# Altium integrated library TI_Logic_Flip-Flop,Latch,Register.IntLib: 2598 symbols (part 1 of 122)
Pins are listed as number, name and electrical type; pins without a type are passive.

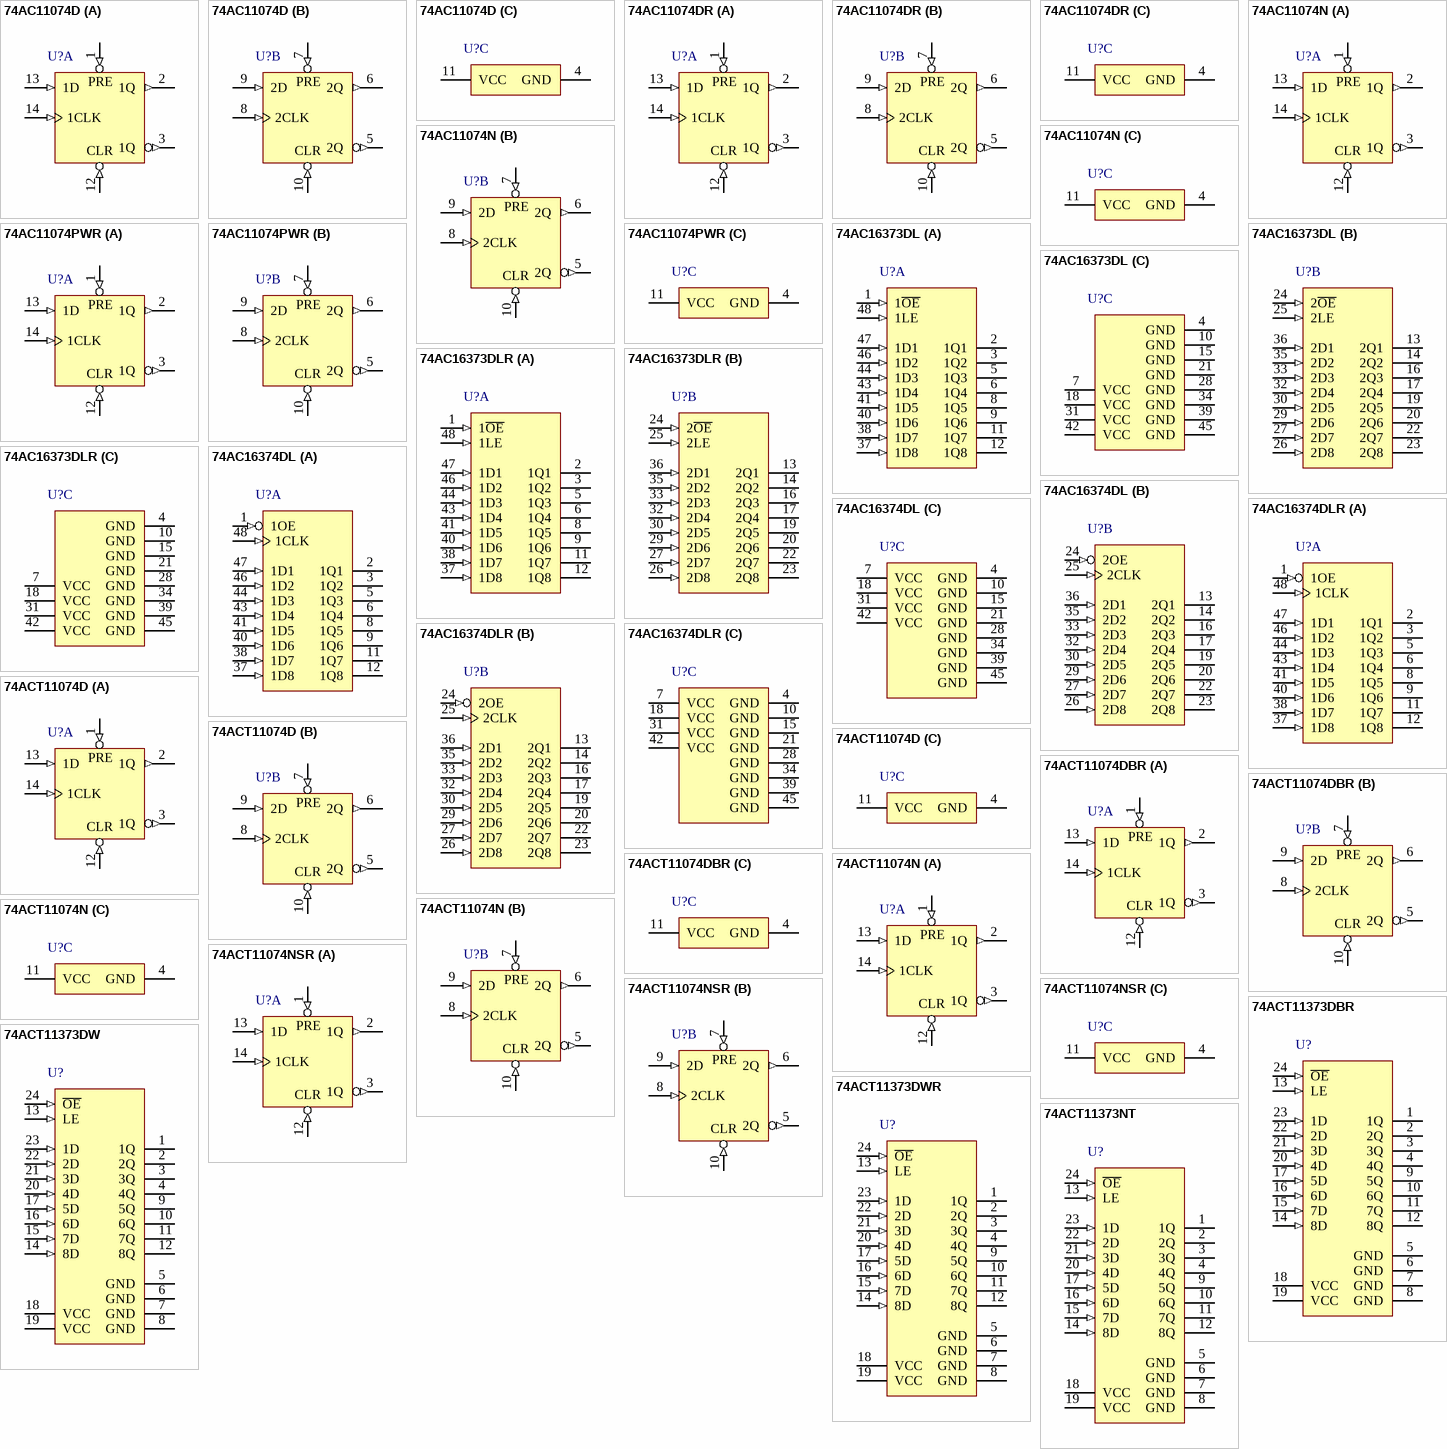
[diagram p0: symbols 74AC11074D to 74ACT11373NT]

## 74AC11074D
designator U?
Dual Positive-Edge-Triggered D-Type Flip-Flops With Clear and Preset, D0014A, TUBE; Generic Part Number: 74AC11074; Manufacturer: Texas Instruments; PartNumber: 74AC11074D; VCC(Min)(V): 3; VCC(Max)(V): 5.5; Output Type: CMOS; Output: 3S; ICC @ Nom Voltage(Max)(mA): 0.04; Bits(#): 2; F @ Nom Voltage(Max)(Mhz): 100; Rating: Catalog; Technology Family: AC; Voltage(Nom)(V): 3.3,5; Schmitt Trigger: No; Output Drive (IOL/IOH)(Max)(mA): 24/-24; Output Logic: Inverted,Non-inverted; tpd @ Nom Voltage(Max)(ns): 11.4,8.2; DatasheetVersion: SCAS499A; PackageReference: D0014A; Supplier 1: Digi-Key; Supplier Part Number 1: 296-4159-5-ND; Supplier 2: Farnell; Supplier Part Number 2: 1752782; Supplier 3: Newark; Supplier Part Number 3: 50R7019; Supplier 4: Mouser; Supplier Part Number 4: 595-74AC11074D; Input Type: CMOS; Operating Temperature Range(C): -40 to 85; 3-State Output: No; Code_JEDEC: MS-012; ComponentLink1Description: Manufacturer URL; ComponentLink1URL: http://www.ti.com/; ComponentLink2Description: Datasheet; ComponentLink2URL: http://www.ti.com/lit/ds/symlink/74ac11074.pdf; ComponentLink3Description: Package Specification; ComponentLink3URL: http://www.ti.com/lit/ml/mpds177g/mpds177g.pdf
footprint D0014A_N (SOIC, 14-Leads, Body 8.75x4mm, Pitch 1.27mm, IPC Medium Density)
footprint D0014A_M (SOIC, 14-Leads, Body 8.75x4mm, Pitch 1.27mm, IPC Low Density)
footprint D0014A_L (SOIC, 14-Leads, Body 8.75x4mm, Pitch 1.27mm, IPC High Density)
part A pins: 1 1~{PRE} (in), 2 1Q (out), 3 1Q (out), 12 1~{CLR} (in), 13 1D (in), 14 1CLK (in)
part B pins: 5 2Q (out), 6 2Q (out), 7 2~{PRE} (in), 8 2CLK (in), 9 2D (in), 10 2~{CLR} (in)
part C pins: 4 GND (power), 11 VCC (power)
part A text: PRE; CLR
part B text: PRE; CLR

## 74AC11074DR
designator U?
Dual Positive-Edge-Triggered D-Type Flip-Flops With Clear and Preset, D0014A, LARGE T&R; Generic Part Number: 74AC11074; Manufacturer: Texas Instruments; PartNumber: 74AC11074DR; VCC(Min)(V): 3; VCC(Max)(V): 5.5; Output Type: CMOS; Output: 3S; ICC @ Nom Voltage(Max)(mA): 0.04; Bits(#): 2; F @ Nom Voltage(Max)(Mhz): 100; Rating: Catalog; Technology Family: AC; Voltage(Nom)(V): 3.3,5; Schmitt Trigger: No; Output Drive (IOL/IOH)(Max)(mA): 24/-24; Output Logic: Inverted,Non-inverted; tpd @ Nom Voltage(Max)(ns): 11.4,8.2; DatasheetVersion: SCAS499A; PackageReference: D0014A; Supplier 1: Digi-Key; Supplier Part Number 1: 74AC11074DRTR-ND; Supplier 2: Digi-Key; Supplier Part Number 2: 74AC11074DRCT-ND; Supplier 3: Mouser; Supplier Part Number 3: 595-74AC11074DR; Input Type: CMOS; Operating Temperature Range(C): -40 to 85; 3-State Output: No; Code_JEDEC: MS-012; ComponentLink1Description: Manufacturer URL; ComponentLink1URL: http://www.ti.com/; ComponentLink2Description: Datasheet; ComponentLink2URL: http://www.ti.com/lit/ds/symlink/74ac11074.pdf; ComponentLink3Description: Package Specification; ComponentLink3URL: http://www.ti.com/lit/ml/mpds177g/mpds177g.pdf
footprint D0014A_N (SOIC, 14-Leads, Body 8.75x4mm, Pitch 1.27mm, IPC Medium Density)
footprint D0014A_M (SOIC, 14-Leads, Body 8.75x4mm, Pitch 1.27mm, IPC Low Density)
footprint D0014A_L (SOIC, 14-Leads, Body 8.75x4mm, Pitch 1.27mm, IPC High Density)
part A pins: 1 1~{PRE} (in), 2 1Q (out), 3 1Q (out), 12 1~{CLR} (in), 13 1D (in), 14 1CLK (in)
part B pins: 5 2Q (out), 6 2Q (out), 7 2~{PRE} (in), 8 2CLK (in), 9 2D (in), 10 2~{CLR} (in)
part C pins: 4 GND (power), 11 VCC (power)
part A text: PRE; CLR
part B text: PRE; CLR

## 74AC11074N
designator U?
Dual Positive-Edge-Triggered D-Type Flip-Flops With Clear and Preset, N0014A, TUBE; Generic Part Number: 74AC11074; Manufacturer: Texas Instruments; PartNumber: 74AC11074N; VCC(Min)(V): 3; VCC(Max)(V): 5.5; Output Type: CMOS; Output: 3S; ICC @ Nom Voltage(Max)(mA): 0.04; Bits(#): 2; F @ Nom Voltage(Max)(Mhz): 100; Rating: Catalog; Technology Family: AC; Voltage(Nom)(V): 3.3,5; Schmitt Trigger: No; Output Drive (IOL/IOH)(Max)(mA): 24/-24; Output Logic: Inverted,Non-inverted; tpd @ Nom Voltage(Max)(ns): 11.4,8.2; DatasheetVersion: SCAS499A; PackageReference: N0014A; Supplier 1: Digi-Key; Supplier Part Number 1: 296-32790-5-ND; Supplier 2: Farnell; Supplier Part Number 2: 1749861; Supplier 3: Newark; Supplier Part Number 3: 50R7020; Supplier 4: Mouser; Supplier Part Number 4: 595-74AC11074N; Input Type: CMOS; Operating Temperature Range(C): -40 to 85; 3-State Output: No; Code_JEDEC: MS-001; ComponentLink1Description: Manufacturer URL; ComponentLink1URL: http://www.ti.com/; ComponentLink2Description: Datasheet; ComponentLink2URL: http://www.ti.com/lit/ds/symlink/74ac11074.pdf; ComponentLink3Description: Package Specification; ComponentLink3URL: http://www.ti.com/lit/ml/mpdi002c/mpdi002c.pdf
footprint N0014A (DIP, 14-Leads, Body 19.7x6.6mm, Pitch 2.54mm)
part A pins: 1 1~{PRE} (in), 2 1Q (out), 3 1Q (out), 12 1~{CLR} (in), 13 1D (in), 14 1CLK (in)
part B pins: 5 2Q (out), 6 2Q (out), 7 2~{PRE} (in), 8 2CLK (in), 9 2D (in), 10 2~{CLR} (in)
part C pins: 4 GND (power), 11 VCC (power)
part A text: PRE; CLR
part B text: PRE; CLR

## 74AC11074PWR
designator U?
Dual Positive-Edge-Triggered D-Type Flip-Flops With Clear and Preset, PW0014A, LARGE T&R; Generic Part Number: 74AC11074; Manufacturer: Texas Instruments; PartNumber: 74AC11074PWR; VCC(Min)(V): 3; VCC(Max)(V): 5.5; Output Type: CMOS; Output: 3S; ICC @ Nom Voltage(Max)(mA): 0.04; Bits(#): 2; F @ Nom Voltage(Max)(Mhz): 100; Rating: Catalog; Technology Family: AC; Voltage(Nom)(V): 3.3,5; Schmitt Trigger: No; Output Drive (IOL/IOH)(Max)(mA): 24/-24; Output Logic: Inverted,Non-inverted; tpd @ Nom Voltage(Max)(ns): 11.4,8.2; DatasheetVersion: SCAS499A; PackageReference: PW0014A; Supplier 1: Digi-Key; Supplier Part Number 1: 296-4160-2-ND; Supplier 2: Digi-Key; Supplier Part Number 2: 296-4160-1-ND; Supplier 3: Digi-Key; Supplier Part Number 3: 296-4160-6-ND; Supplier 4: Newark; Supplier Part Number 4: 75C9256; Supplier 5: Mouser; Supplier Part Number 5: 595-74AC11074PWR; Input Type: CMOS; Operating Temperature Range(C): -40 to 85; 3-State Output: No; Code_JEDEC: MO-153; ComponentLink1Description: Manufacturer URL; ComponentLink1URL: http://www.ti.com/; ComponentLink2Description: Datasheet; ComponentLink2URL: http://www.ti.com/lit/ds/symlink/74ac11074.pdf; ComponentLink3Description: Package Specification; ComponentLink3URL: http://www.ti.com/lit/ml/mpds360/mpds360.pdf
footprint PW0014A_N (SOP, 14-Leads, Body 5.1x4.5mm, Pitch 0.65mm, IPC Medium Density)
footprint PW0014A_M (SOP, 14-Leads, Body 5.1x4.5mm, Pitch 0.65mm, IPC Low Density)
footprint PW0014A_L (SOP, 14-Leads, Body 5.1x4.5mm, Pitch 0.65mm, IPC High Density)
part A pins: 1 1~{PRE} (in), 2 1Q (out), 3 1Q (out), 12 1~{CLR} (in), 13 1D (in), 14 1CLK (in)
part B pins: 5 2Q (out), 6 2Q (out), 7 2~{PRE} (in), 8 2CLK (in), 9 2D (in), 10 2~{CLR} (in)
part C pins: 4 GND (power), 11 VCC (power)
part A text: PRE; CLR
part B text: PRE; CLR

## 74AC16373DL
designator U?
16-Bit Transparent D-Type Latches With 3-State Outputs, DL0048A, TUBE; Generic Part Number: 74AC16373; Manufacturer: Texas Instruments; PartNumber: 74AC16373DL; VCC(Min)(V): 3; VCC(Max)(V): 5.5; Output Type: CMOS; Logic: True; Static Current: 0.08; Bits(#): 16; F @ Nom Voltage(Max)(Mhz): 100; Rating: Catalog; Technology Family: AC; Voltage(Nom)(V): 3.3,5; Schmitt Trigger: No; Output Drive (IOL/IOH)(Max)(mA): 24/-24; Output Logic: Non-inverted; 3-State Output: Yes; tpd @ Nom Voltage(Max)(ns): 14.8,10.1; DatasheetVersion: SCAS121B; PackageReference: DL0048A; Supplier 1: Digi-Key; Supplier Part Number 1: 296-32798-5-ND; Supplier 2: Newark; Supplier Part Number 2: 75C9286; Supplier 3: Mouser; Supplier Part Number 3: 595-74AC16373DL; ICC @ Nom Voltage(Max)(mA): 0.08; Input Type: CMOS; Operating Temperature Range(C): -40 to 85; Code_JEDEC: MO-118; ComponentLink1Description: Manufacturer URL; ComponentLink1URL: http://www.ti.com/; ComponentLink2Description: Datasheet; ComponentLink2URL: http://www.ti.com/lit/ds/symlink/74ac16373.pdf; ComponentLink3Description: Package Specification; ComponentLink3URL: http://www.ti.com/lit/ml/mpds490/mpds490.pdf
footprint DL0048A_N (SOP, 48-Leads, Body 7.6x16mm, Pitch 0.635mm, IPC Medium Density)
footprint DL0048A_M (SOP, 48-Leads, Body 7.6x16mm, Pitch 0.635mm, IPC Low Density)
footprint DL0048A_L (SOP, 48-Leads, Body 7.6x16mm, Pitch 0.635mm, IPC High Density)
part A pins: 1 1~{OE} (in) "Output Enable 1", 2 1Q1 (hiz) "1Q1 Output", 3 1Q2 (hiz) "1Q2 Output", 5 1Q3 (hiz) "1Q3 Output", 6 1Q4 (hiz) "1Q4 Output", 8 1Q5 (hiz) "1Q5 Output", 9 1Q6 (hiz) "1Q6 Output", 11 1Q7 (hiz) "1Q7 Output", 12 1Q8 (hiz) "1Q8 Output", 37 1D8 (in) "1D8 Input", 38 1D7 (in) "1D7 Input", 40 1D6 (in) "1D6 Input", 41 1D5 (in) "1D5 Input", 43 1D4 (in) "1D4 Input", 44 1D3 (in) "1D3 Input", 46 1D2 (in) "1D2 Input", 47 1D1 (in) "1D1 Input", 48 1LE (in) "Latch Enable 1"
part B pins: 13 2Q1 (hiz) "2Q1 Output", 14 2Q2 (hiz) "2Q2 Output", 16 2Q3 (hiz) "2Q3 Output", 17 2Q4 (hiz) "2Q4 Output", 19 2Q5 (hiz) "Output", 20 2Q6 (hiz) "2Q6 Output", 22 2Q7 (hiz) "2Q7 Output", 23 2Q8 (hiz) "2Q8 Output", 24 2~{OE} (in) "Output Enable 2", 25 2LE (in) "2LE Input", 26 2D8 (in) "2D8 Input", 27 2D7 (in) "2D7 Input", 29 2D6 (in) "2D6 Input", 30 2D5 (in) "2D5 Input", 32 2D4 (in) "2D4 Input", 33 2D3 (in) "2D3 Input", 35 2D2 (in) "2D2 Input", 36 2D1 (in) "2D1 Input"
part C pins: 4 GND (power) "Ground Pin", 7 VCC (power) "Power Pin", 10 GND (power) "Ground Pin", 15 GND (power) "Ground Pin", 18 VCC (power) "Power Pin", 21 GND (power) "Ground Pin", 28 GND (power) "Ground Pin", 31 VCC (power) "Power Pin", 34 GND (power) "Ground Pin", 39 GND (power) "Ground Pin", 42 VCC (power) "Power Pin", 45 GND (power) "Ground Pin"

## 74AC16373DLR
designator U?
16-Bit Transparent D-Type Latches With 3-State Outputs, DL0048A, LARGE T&R; Generic Part Number: 74AC16373; Manufacturer: Texas Instruments; PartNumber: 74AC16373DLR; VCC(Min)(V): 3; VCC(Max)(V): 5.5; Output Type: CMOS; Logic: True; Static Current: 0.08; Bits(#): 16; F @ Nom Voltage(Max)(Mhz): 100; Rating: Catalog; Technology Family: AC; Voltage(Nom)(V): 3.3,5; Schmitt Trigger: No; Output Drive (IOL/IOH)(Max)(mA): 24/-24; Output Logic: Non-inverted; 3-State Output: Yes; tpd @ Nom Voltage(Max)(ns): 14.8,10.1; DatasheetVersion: SCAS121B; PackageReference: DL0048A; Supplier 1: Digi-Key; Supplier Part Number 1: 74AC16373DLR-ND; Supplier 2: Mouser; Supplier Part Number 2: 595-74AC16373DLR; ICC @ Nom Voltage(Max)(mA): 0.08; Input Type: CMOS; Operating Temperature Range(C): -40 to 85; Code_JEDEC: MO-118; ComponentLink1Description: Manufacturer URL; ComponentLink1URL: http://www.ti.com/; ComponentLink2Description: Datasheet; ComponentLink2URL: http://www.ti.com/lit/ds/symlink/74ac16373.pdf; ComponentLink3Description: Package Specification; ComponentLink3URL: http://www.ti.com/lit/ml/mpds490/mpds490.pdf
footprint DL0048A_N (SOP, 48-Leads, Body 7.6x16mm, Pitch 0.635mm, IPC Medium Density)
footprint DL0048A_M (SOP, 48-Leads, Body 7.6x16mm, Pitch 0.635mm, IPC Low Density)
footprint DL0048A_L (SOP, 48-Leads, Body 7.6x16mm, Pitch 0.635mm, IPC High Density)
part A pins: 1 1~{OE} (in) "Output Enable 1", 2 1Q1 (hiz) "1Q1 Output", 3 1Q2 (hiz) "1Q2 Output", 5 1Q3 (hiz) "1Q3 Output", 6 1Q4 (hiz) "1Q4 Output", 8 1Q5 (hiz) "1Q5 Output", 9 1Q6 (hiz) "1Q6 Output", 11 1Q7 (hiz) "1Q7 Output", 12 1Q8 (hiz) "1Q8 Output", 37 1D8 (in) "1D8 Input", 38 1D7 (in) "1D7 Input", 40 1D6 (in) "1D6 Input", 41 1D5 (in) "1D5 Input", 43 1D4 (in) "1D4 Input", 44 1D3 (in) "1D3 Input", 46 1D2 (in) "1D2 Input", 47 1D1 (in) "1D1 Input", 48 1LE (in) "Latch Enable 1"
part B pins: 13 2Q1 (hiz) "2Q1 Output", 14 2Q2 (hiz) "2Q2 Output", 16 2Q3 (hiz) "2Q3 Output", 17 2Q4 (hiz) "2Q4 Output", 19 2Q5 (hiz) "Output", 20 2Q6 (hiz) "2Q6 Output", 22 2Q7 (hiz) "2Q7 Output", 23 2Q8 (hiz) "2Q8 Output", 24 2~{OE} (in) "Output Enable 2", 25 2LE (in) "2LE Input", 26 2D8 (in) "2D8 Input", 27 2D7 (in) "2D7 Input", 29 2D6 (in) "2D6 Input", 30 2D5 (in) "2D5 Input", 32 2D4 (in) "2D4 Input", 33 2D3 (in) "2D3 Input", 35 2D2 (in) "2D2 Input", 36 2D1 (in) "2D1 Input"
part C pins: 4 GND (power) "Ground Pin", 7 VCC (power) "Power Pin", 10 GND (power) "Ground Pin", 15 GND (power) "Ground Pin", 18 VCC (power) "Power Pin", 21 GND (power) "Ground Pin", 28 GND (power) "Ground Pin", 31 VCC (power) "Power Pin", 34 GND (power) "Ground Pin", 39 GND (power) "Ground Pin", 42 VCC (power) "Power Pin", 45 GND (power) "Ground Pin"

## 74AC16374DL
designator U?
16-Bit Edge-Triggered D-Type Flip-Flops With 3-State Outputs, DL0048A, TUBE; Generic Part Number: 74AC16374; Manufacturer: Texas Instruments; PartNumber: 74AC16374DL; VCC(Min)(V): 3; VCC(Max)(V): 5.5; Output Type: CMOS; ICC @ Nom Voltage(Max)(mA): 0.08; Bits(#): 16; F @ Nom Voltage(Max)(Mhz): 100; Rating: Catalog; Technology Family: AC; Voltage(Nom)(V): 3.3,5; Schmitt Trigger: No; Output Drive (IOL/IOH)(Max)(mA): 24/-24; Output Logic: Non-inverted; 3-State Output: Yes; tpd @ Nom Voltage(Max)(ns): 17,10.8; DatasheetVersion: SCAS123B; PackageReference: DL0048A; Supplier 1: Digi-Key; Supplier Part Number 1: 296-32799-5-ND; Supplier 2: Farnell; Supplier Part Number 2: 1752786; Supplier 3: Mouser; Supplier Part Number 3: 595-74AC16374DL; Input Type: CMOS; Operating Temperature Range(C): -40 to 85; Code_JEDEC: MO-118; ComponentLink1Description: Manufacturer URL; ComponentLink1URL: http://www.ti.com/; ComponentLink2Description: Datasheet; ComponentLink2URL: http://www.ti.com/lit/ds/symlink/74ac16374.pdf; ComponentLink3Description: Package Specification; ComponentLink3URL: http://www.ti.com/lit/ml/mpds490/mpds490.pdf
footprint DL0048A_N (SOP, 48-Leads, Body 7.6x16mm, Pitch 0.635mm, IPC Medium Density)
footprint DL0048A_M (SOP, 48-Leads, Body 7.6x16mm, Pitch 0.635mm, IPC Low Density)
footprint DL0048A_L (SOP, 48-Leads, Body 7.6x16mm, Pitch 0.635mm, IPC High Density)
part A pins: 1 1OE (in), 2 1Q1 (hiz), 3 1Q2 (hiz), 5 1Q3 (hiz), 6 1Q4 (hiz), 8 1Q5 (hiz), 9 1Q6 (hiz), 11 1Q7 (hiz), 12 1Q8 (hiz), 37 1D8 (in), 38 1D7 (in), 40 1D6 (in), 41 1D5 (in), 43 1D4 (in), 44 1D3 (in), 46 1D2 (in), 47 1D1 (in), 48 1CLK (in)
part B pins: 13 2Q1 (hiz), 14 2Q2 (hiz), 16 2Q3 (hiz), 17 2Q4 (hiz), 19 2Q5 (hiz), 20 2Q6 (hiz), 22 2Q7 (hiz), 23 2Q8 (hiz), 24 2OE (in), 25 2CLK (in), 26 2D8 (in), 27 2D7 (in), 29 2D6 (in), 30 2D5 (in), 32 2D4 (in), 33 2D3 (in), 35 2D2 (in), 36 2D1 (in)
part C pins: 4 GND (power), 7 VCC (power), 10 GND (power), 15 GND (power), 18 VCC (power), 21 GND (power), 28 GND (power), 31 VCC (power), 34 GND (power), 39 GND (power), 42 VCC (power), 45 GND (power)

## 74AC16374DLR
designator U?
16-Bit Edge-Triggered D-Type Flip-Flops With 3-State Outputs, DL0048A, LARGE T&R; Generic Part Number: 74AC16374; Manufacturer: Texas Instruments; PartNumber: 74AC16374DLR; VCC(Min)(V): 3; VCC(Max)(V): 5.5; Output Type: CMOS; ICC @ Nom Voltage(Max)(mA): 0.08; Bits(#): 16; F @ Nom Voltage(Max)(Mhz): 100; Rating: Catalog; Technology Family: AC; Voltage(Nom)(V): 3.3,5; Schmitt Trigger: No; Output Drive (IOL/IOH)(Max)(mA): 24/-24; Output Logic: Non-inverted; 3-State Output: Yes; tpd @ Nom Voltage(Max)(ns): 17,10.8; DatasheetVersion: SCAS123B; PackageReference: DL0048A; Supplier 1: Digi-Key; Supplier Part Number 1: 296-14453-2-ND; Supplier 2: Digi-Key; Supplier Part Number 2: 296-14453-1-ND; Supplier 3: Digi-Key; Supplier Part Number 3: 296-14453-6-ND; Supplier 4: Mouser; Supplier Part Number 4: 595-74AC16374DLR; Input Type: CMOS; Operating Temperature Range(C): -40 to 85; Code_JEDEC: MO-118; ComponentLink1Description: Manufacturer URL; ComponentLink1URL: http://www.ti.com/; ComponentLink2Description: Datasheet; ComponentLink2URL: http://www.ti.com/lit/ds/symlink/74ac16374.pdf; ComponentLink3Description: Package Specification; ComponentLink3URL: http://www.ti.com/lit/ml/mpds490/mpds490.pdf
footprint DL0048A_N (SOP, 48-Leads, Body 7.6x16mm, Pitch 0.635mm, IPC Medium Density)
footprint DL0048A_M (SOP, 48-Leads, Body 7.6x16mm, Pitch 0.635mm, IPC Low Density)
footprint DL0048A_L (SOP, 48-Leads, Body 7.6x16mm, Pitch 0.635mm, IPC High Density)
part A pins: 1 1OE (in), 2 1Q1 (hiz), 3 1Q2 (hiz), 5 1Q3 (hiz), 6 1Q4 (hiz), 8 1Q5 (hiz), 9 1Q6 (hiz), 11 1Q7 (hiz), 12 1Q8 (hiz), 37 1D8 (in), 38 1D7 (in), 40 1D6 (in), 41 1D5 (in), 43 1D4 (in), 44 1D3 (in), 46 1D2 (in), 47 1D1 (in), 48 1CLK (in)
part B pins: 13 2Q1 (hiz), 14 2Q2 (hiz), 16 2Q3 (hiz), 17 2Q4 (hiz), 19 2Q5 (hiz), 20 2Q6 (hiz), 22 2Q7 (hiz), 23 2Q8 (hiz), 24 2OE (in), 25 2CLK (in), 26 2D8 (in), 27 2D7 (in), 29 2D6 (in), 30 2D5 (in), 32 2D4 (in), 33 2D3 (in), 35 2D2 (in), 36 2D1 (in)
part C pins: 4 GND (power), 7 VCC (power), 10 GND (power), 15 GND (power), 18 VCC (power), 21 GND (power), 28 GND (power), 31 VCC (power), 34 GND (power), 39 GND (power), 42 VCC (power), 45 GND (power)

## 74ACT11074D
designator U?
Dual Positive-Edge-Triggered D-Type Flip-Flops With Clear and Preset, D0014A, TUBE; Generic Part Number: 74ACT11074; Manufacturer: Texas Instruments; PartNumber: 74ACT11074D; VCC(Min)(V): 4.5; VCC(Max)(V): 5.5; Output Type: CMOS; Output: 3S; ICC @ Nom Voltage(Max)(mA): 0.04; Input Type: TTL; Bits(#): 2; F @ Nom Voltage(Max)(Mhz): 90; Rating: Catalog; Technology Family: ACT; Voltage(Nom)(V): 5; Schmitt Trigger: No; Output Drive (IOL/IOH)(Max)(mA): 24/-24; Output Logic: Inverted,Non-inverted; tpd @ Nom Voltage(Max)(ns): 9.4; DatasheetVersion: SCAS498A; PackageReference: D0014A; Supplier 1: Digi-Key; Supplier Part Number 1: 296-32803-5-ND; Supplier 2: Farnell; Supplier Part Number 2: 1752791; Supplier 3: Newark; Supplier Part Number 3: 50R6991; Supplier 4: Mouser; Supplier Part Number 4: 595-74ACT11074D; Operating Temperature Range(C): -40 to 85; 3-State Output: No; Code_JEDEC: MS-012; ComponentLink1Description: Manufacturer URL; ComponentLink1URL: http://www.ti.com/; ComponentLink2Description: Datasheet; ComponentLink2URL: http://www.ti.com/lit/ds/symlink/74act11074.pdf; ComponentLink3Description: Package Specification; ComponentLink3URL: http://www.ti.com/lit/ml/mpds177g/mpds177g.pdf
footprint D0014A_N (SOIC, 14-Leads, Body 8.75x4mm, Pitch 1.27mm, IPC Medium Density)
footprint D0014A_M (SOIC, 14-Leads, Body 8.75x4mm, Pitch 1.27mm, IPC Low Density)
footprint D0014A_L (SOIC, 14-Leads, Body 8.75x4mm, Pitch 1.27mm, IPC High Density)
part A pins: 1 1~{PRE} (in), 2 1Q (out), 3 1Q (out), 12 1~{CLR} (in), 13 1D (in), 14 1CLK (in)
part B pins: 5 2Q (out), 6 2Q (out), 7 2~{PRE} (in), 8 2CLK (in), 9 2D (in), 10 2~{CLR} (in)
part C pins: 4 GND (power), 11 VCC (power)
part A text: PRE; CLR
part B text: PRE; CLR

## 74ACT11074DBR
designator U?
Dual Positive-Edge-Triggered D-Type Flip-Flops With Clear and Preset, DB0014A, LARGE T&R; Generic Part Number: 74ACT11074; Manufacturer: Texas Instruments; PartNumber: 74ACT11074DBR; VCC(Min)(V): 4.5; VCC(Max)(V): 5.5; Output Type: CMOS; Output: 3S; ICC @ Nom Voltage(Max)(mA): 0.04; Input Type: TTL; Bits(#): 2; F @ Nom Voltage(Max)(Mhz): 90; Rating: Catalog; Technology Family: ACT; Voltage(Nom)(V): 5; Schmitt Trigger: No; Output Drive (IOL/IOH)(Max)(mA): 24/-24; Output Logic: Inverted,Non-inverted; tpd @ Nom Voltage(Max)(ns): 9.4; DatasheetVersion: SCAS498A; PackageReference: DB0014A; Supplier 1: Digi-Key; Supplier Part Number 1: 296-4184-2-ND; Supplier 2: Digi-Key; Supplier Part Number 2: 296-4184-1-ND; Supplier 3: Digi-Key; Supplier Part Number 3: 296-4184-6-ND; Supplier 4: Mouser; Supplier Part Number 4: 595-74ACT11074DBR; Operating Temperature Range(C): -40 to 85; 3-State Output: No; Code_JEDEC: MO-150; ComponentLink1Description: Manufacturer URL; ComponentLink1URL: http://www.ti.com/; ComponentLink2Description: Datasheet; ComponentLink2URL: http://www.ti.com/lit/ds/symlink/74act11074.pdf; ComponentLink3Description: Package Specification; ComponentLink3URL: http://www.ti.com/lit/ml/msso002e/msso002e.pdf
footprint DB0014A_N (SOP, 14-Leads, Body 5.6x6.5mm, Pitch 0.65mm, IPC Medium Density)
footprint DB0014A_M (SOP, 14-Leads, Body 5.6x6.5mm, Pitch 0.65mm, IPC Low Density)
footprint DB0014A_L (SOP, 14-Leads, Body 5.6x6.5mm, Pitch 0.65mm, IPC High Density)
part A pins: 1 1~{PRE} (in), 2 1Q (out), 3 1Q (out), 12 1~{CLR} (in), 13 1D (in), 14 1CLK (in)
part B pins: 5 2Q (out), 6 2Q (out), 7 2~{PRE} (in), 8 2CLK (in), 9 2D (in), 10 2~{CLR} (in)
part C pins: 4 GND (power), 11 VCC (power)
part A text: PRE; CLR
part B text: PRE; CLR

## 74ACT11074N
designator U?
Dual Positive-Edge-Triggered D-Type Flip-Flops With Clear and Preset, N0014A, TUBE; Generic Part Number: 74ACT11074; Manufacturer: Texas Instruments; PartNumber: 74ACT11074N; VCC(Min)(V): 4.5; VCC(Max)(V): 5.5; Output Type: CMOS; Output: 3S; ICC @ Nom Voltage(Max)(mA): 0.04; Input Type: TTL; Bits(#): 2; F @ Nom Voltage(Max)(Mhz): 90; Rating: Catalog; Technology Family: ACT; Voltage(Nom)(V): 5; Schmitt Trigger: No; Output Drive (IOL/IOH)(Max)(mA): 24/-24; Output Logic: Inverted,Non-inverted; tpd @ Nom Voltage(Max)(ns): 9.4; DatasheetVersion: SCAS498A; PackageReference: N0014A; Supplier 1: Digi-Key; Supplier Part Number 1: 296-32804-5-ND; Supplier 2: Farnell; Supplier Part Number 2: 1749868; Supplier 3: Mouser; Supplier Part Number 3: 595-74ACT11074N; Operating Temperature Range(C): -40 to 85; 3-State Output: No; Code_JEDEC: MS-001; ComponentLink1Description: Manufacturer URL; ComponentLink1URL: http://www.ti.com/; ComponentLink2Description: Datasheet; ComponentLink2URL: http://www.ti.com/lit/ds/symlink/74act11074.pdf; ComponentLink3Description: Package Specification; ComponentLink3URL: http://www.ti.com/lit/ml/mpdi002c/mpdi002c.pdf
footprint N0014A (DIP, 14-Leads, Body 19.7x6.6mm, Pitch 2.54mm)
part A pins: 1 1~{PRE} (in), 2 1Q (out), 3 1Q (out), 12 1~{CLR} (in), 13 1D (in), 14 1CLK (in)
part B pins: 5 2Q (out), 6 2Q (out), 7 2~{PRE} (in), 8 2CLK (in), 9 2D (in), 10 2~{CLR} (in)
part C pins: 4 GND (power), 11 VCC (power)
part A text: PRE; CLR
part B text: PRE; CLR

## 74ACT11074NSR
designator U?
Dual Positive-Edge-Triggered D-Type Flip-Flops With Clear and Preset, NS0014A, LARGE T&R; Generic Part Number: 74ACT11074; Manufacturer: Texas Instruments; PartNumber: 74ACT11074NSR; VCC(Min)(V): 4.5; VCC(Max)(V): 5.5; Output Type: CMOS; Output: 3S; ICC @ Nom Voltage(Max)(mA): 0.04; Input Type: TTL; Bits(#): 2; F @ Nom Voltage(Max)(Mhz): 90; Rating: Catalog; Technology Family: ACT; Voltage(Nom)(V): 5; Schmitt Trigger: No; Output Drive (IOL/IOH)(Max)(mA): 24/-24; Output Logic: Inverted,Non-inverted; tpd @ Nom Voltage(Max)(ns): 9.4; DatasheetVersion: SCAS498A; PackageReference: NS0014A; Supplier 1: Digi-Key; Supplier Part Number 1: 296-13059-2-ND; Supplier 2: Digi-Key; Supplier Part Number 2: 296-13059-1-ND; Supplier 3: Digi-Key; Supplier Part Number 3: 296-13059-6-ND; Supplier 4: Mouser; Supplier Part Number 4: 595-74ACT11074NSR; Operating Temperature Range(C): -40 to 85; 3-State Output: No; ComponentLink1Description: Manufacturer URL; ComponentLink1URL: http://www.ti.com/; ComponentLink2Description: Datasheet; ComponentLink2URL: http://www.ti.com/lit/ds/symlink/74act11074.pdf; ComponentLink3Description: Package Specification; ComponentLink3URL: http://www.ti.com/lit/ml/msop002a/msop002a.pdf
footprint NS0014A_N (SOIC,14-Leads,Body 10.5x5.6mm,Pitch 1.27mm,IPC Medium Density)
footprint NS0014A_M (SOIC,14-Leads,Body 10.5x5.6mm,Pitch 1.27mm,IPC Low Density)
footprint NS0014A_L (SOIC,14-Leads,Body 10.5x5.6mm,Pitch 0.4mm,IPC High Density)
part A pins: 1 1~{PRE} (in), 2 1Q (out), 3 1Q (out), 12 1~{CLR} (in), 13 1D (in), 14 1CLK (in)
part B pins: 5 2Q (out), 6 2Q (out), 7 2~{PRE} (in), 8 2CLK (in), 9 2D (in), 10 2~{CLR} (in)
part C pins: 4 GND (power), 11 VCC (power)
part A text: PRE; CLR
part B text: PRE; CLR

## 74ACT11373DBR
designator U?
Octal Transparent D-Type Latches With 3-State Outputs, DB0024A, LARGE T&R; Generic Part Number: 74ACT11373; Manufacturer: Texas Instruments; PartNumber: 74ACT11373DBR; VCC(Min)(V): 4.5; VCC(Max)(V): 5.5; Output Type: CMOS; Logic: True; Static Current: 0.08; Input Type: TTL; Bits(#): 8; F @ Nom Voltage(Max)(Mhz): 90; Rating: Catalog; Technology Family: ACT; Voltage(Nom)(V): 5; Schmitt Trigger: No; Output Drive (IOL/IOH)(Max)(mA): 24/-24; Output Logic: Non-inverted; 3-State Output: Yes; tpd @ Nom Voltage(Max)(ns): 11.8; DatasheetVersion: SCAS015B; PackageReference: DB0024A; Supplier 1: Digi-Key; Supplier Part Number 1: 296-4197-2-ND; Supplier 2: Digi-Key; Supplier Part Number 2: 296-4197-1-ND; Supplier 3: Digi-Key; Supplier Part Number 3: 296-4197-6-ND; Supplier 4: Mouser; Supplier Part Number 4: 595-74ACT11373DBR; ICC @ Nom Voltage(Max)(mA): 0.08; Operating Temperature Range(C): -40 to 85; Code_JEDEC: MO-150; ComponentLink1Description: Manufacturer URL; ComponentLink1URL: http://www.ti.com/; ComponentLink2Description: Datasheet; ComponentLink2URL: http://www.ti.com/lit/ds/symlink/74act11373.pdf; ComponentLink3Description: Package Specification; ComponentLink3URL: http://www.ti.com/lit/ml/mpds509/mpds509.pdf
footprint DB0024A_N (SOP, 24-Leads, Body 5.6x8.5mm, Pitch 0.65mm, IPC Medium Density)
footprint DB0024A_M (SOP, 24-Leads, Body 5.6x8.5mm, Pitch 0.65mm, IPC Low Density)
footprint DB0024A_L (SOP, 24-Leads, Body 5.6x8.5mm, Pitch 0.65mm, IPC High Density)
pins: 1 1Q (hiz), 2 2Q (hiz), 3 3Q (hiz), 4 4Q (hiz), 5 GND (power), 6 GND (power), 7 GND (power), 8 GND (power), 9 5Q (hiz), 10 6Q (hiz), 11 7Q (hiz), 12 8Q (hiz), 13 LE (in), 14 8D (in), 15 7D (in), 16 6D (in), 17 5D (in), 18 VCC (power), 19 VCC (power), 20 4D (in), 21 3D (in), 22 2D (in), 23 1D (in), 24 ~{OE} (in)

## 74ACT11373DW
designator U?
Octal Transparent D-Type Latches With 3-State Outputs, DW0024A, TUBE; Generic Part Number: 74ACT11373; Manufacturer: Texas Instruments; PartNumber: 74ACT11373DW; VCC(Min)(V): 4.5; VCC(Max)(V): 5.5; Output Type: CMOS; Logic: True; Static Current: 0.08; Input Type: TTL; Bits(#): 8; F @ Nom Voltage(Max)(Mhz): 90; Rating: Catalog; Technology Family: ACT; Voltage(Nom)(V): 5; Schmitt Trigger: No; Output Drive (IOL/IOH)(Max)(mA): 24/-24; Output Logic: Non-inverted; 3-State Output: Yes; tpd @ Nom Voltage(Max)(ns): 11.8; DatasheetVersion: SCAS015B; PackageReference: DW0024A; Supplier 1: Digi-Key; Supplier Part Number 1: 296-4198-5-ND; Supplier 2: Farnell; Supplier Part Number 2: 1752793; Supplier 3: Mouser; Supplier Part Number 3: 595-74ACT11373DW; ICC @ Nom Voltage(Max)(mA): 0.08; Operating Temperature Range(C): -40 to 85; Code_JEDEC: MS-013; ComponentLink1Description: Manufacturer URL; ComponentLink1URL: http://www.ti.com/; ComponentLink2Description: Datasheet; ComponentLink2URL: http://www.ti.com/lit/ds/symlink/74act11373.pdf; ComponentLink3Description: Package Specification; ComponentLink3URL: http://www.ti.com/lit/ml/mpds174a/mpds174a.pdf
footprint DW0024A_N (SOIC, 24-Leads, Body 15.6x7.6mm, Pitch 1.27mm, IPC Medium Density)
footprint DW0024A_M (SOIC, 24-Leads, Body 15.6x7.6mm, Pitch 1.27mm, IPC Low Density)
footprint DW0024A_L (SOIC, 24-Leads, Body 15.6x7.6mm, Pitch 1.27mm, IPC High Density)
pins: 1 1Q (hiz), 2 2Q (hiz), 3 3Q (hiz), 4 4Q (hiz), 5 GND (power), 6 GND (power), 7 GND (power), 8 GND (power), 9 5Q (hiz), 10 6Q (hiz), 11 7Q (hiz), 12 8Q (hiz), 13 LE (in), 14 8D (in), 15 7D (in), 16 6D (in), 17 5D (in), 18 VCC (power), 19 VCC (power), 20 4D (in), 21 3D (in), 22 2D (in), 23 1D (in), 24 ~{OE} (in)

## 74ACT11373DWR
designator U?
Octal Transparent D-Type Latches With 3-State Outputs, DW0024A, LARGE T&R; Generic Part Number: 74ACT11373; Manufacturer: Texas Instruments; PartNumber: 74ACT11373DWR; VCC(Min)(V): 4.5; VCC(Max)(V): 5.5; Output Type: CMOS; Logic: True; Static Current: 0.08; Input Type: TTL; Bits(#): 8; F @ Nom Voltage(Max)(Mhz): 90; Rating: Catalog; Technology Family: ACT; Voltage(Nom)(V): 5; Schmitt Trigger: No; Output Drive (IOL/IOH)(Max)(mA): 24/-24; Output Logic: Non-inverted; 3-State Output: Yes; tpd @ Nom Voltage(Max)(ns): 11.8; DatasheetVersion: SCAS015B; PackageReference: DW0024A; Supplier 1: Digi-Key; Supplier Part Number 1: 296-29395-2-ND; Supplier 2: Digi-Key; Supplier Part Number 2: 296-29395-1-ND; Supplier 3: Digi-Key; Supplier Part Number 3: 296-29395-6-ND; Supplier 4: Mouser; Supplier Part Number 4: 595-74ACT11373DWR; ICC @ Nom Voltage(Max)(mA): 0.08; Operating Temperature Range(C): -40 to 85; Code_JEDEC: MS-013; ComponentLink1Description: Manufacturer URL; ComponentLink1URL: http://www.ti.com/; ComponentLink2Description: Datasheet; ComponentLink2URL: http://www.ti.com/lit/ds/symlink/74act11373.pdf; ComponentLink3Description: Package Specification; ComponentLink3URL: http://www.ti.com/lit/ml/mpds174a/mpds174a.pdf
footprint DW0024A_N (SOIC, 24-Leads, Body 15.6x7.6mm, Pitch 1.27mm, IPC Medium Density)
footprint DW0024A_M (SOIC, 24-Leads, Body 15.6x7.6mm, Pitch 1.27mm, IPC Low Density)
footprint DW0024A_L (SOIC, 24-Leads, Body 15.6x7.6mm, Pitch 1.27mm, IPC High Density)
pins: 1 1Q (hiz), 2 2Q (hiz), 3 3Q (hiz), 4 4Q (hiz), 5 GND (power), 6 GND (power), 7 GND (power), 8 GND (power), 9 5Q (hiz), 10 6Q (hiz), 11 7Q (hiz), 12 8Q (hiz), 13 LE (in), 14 8D (in), 15 7D (in), 16 6D (in), 17 5D (in), 18 VCC (power), 19 VCC (power), 20 4D (in), 21 3D (in), 22 2D (in), 23 1D (in), 24 ~{OE} (in)

## 74ACT11373NT
designator U?
Octal Transparent D-Type Latches With 3-State Outputs, NT0024A, TUBE; Generic Part Number: 74ACT11373; Manufacturer: Texas Instruments; PartNumber: 74ACT11373NT; VCC(Min)(V): 4.5; VCC(Max)(V): 5.5; Output Type: CMOS; Logic: True; Static Current: 0.08; Input Type: TTL; Bits(#): 8; F @ Nom Voltage(Max)(Mhz): 90; Rating: Catalog; Technology Family: ACT; Voltage(Nom)(V): 5; Schmitt Trigger: No; Output Drive (IOL/IOH)(Max)(mA): 24/-24; Output Logic: Non-inverted; 3-State Output: Yes; tpd @ Nom Voltage(Max)(ns): 11.8; DatasheetVersion: SCAS015B; PackageReference: NT0024A; Supplier 1: Digi-Key; Supplier Part Number 1: 296-32806-5-ND; Supplier 2: Farnell; Supplier Part Number 2: 1740844; Supplier 3: Newark; Supplier Part Number 3: 50R7000; Supplier 4: Mouser; Supplier Part Number 4: 595-74ACT11373NT; ICC @ Nom Voltage(Max)(mA): 0.08; Operating Temperature Range(C): -40 to 85; ComponentLink1Description: Manufacturer URL; ComponentLink1URL: http://www.ti.com/; ComponentLink2Description: Datasheet; ComponentLink2URL: http://www.ti.com/lit/ds/symlink/74act11373.pdf; ComponentLink3Description: Package Specification; ComponentLink3URL: http://www.ti.com/lit/ml/mpdi004a/mpdi004a.pdf
footprint NT0024A (DIP, 24-Leads, Body 32.05x7.1mm, Pitch 2.54mm)
pins: 1 1Q (hiz), 2 2Q (hiz), 3 3Q (hiz), 4 4Q (hiz), 5 GND (power), 6 GND (power), 7 GND (power), 8 GND (power), 9 5Q (hiz), 10 6Q (hiz), 11 7Q (hiz), 12 8Q (hiz), 13 LE (in), 14 8D (in), 15 7D (in), 16 6D (in), 17 5D (in), 18 VCC (power), 19 VCC (power), 20 4D (in), 21 3D (in), 22 2D (in), 23 1D (in), 24 ~{OE} (in)

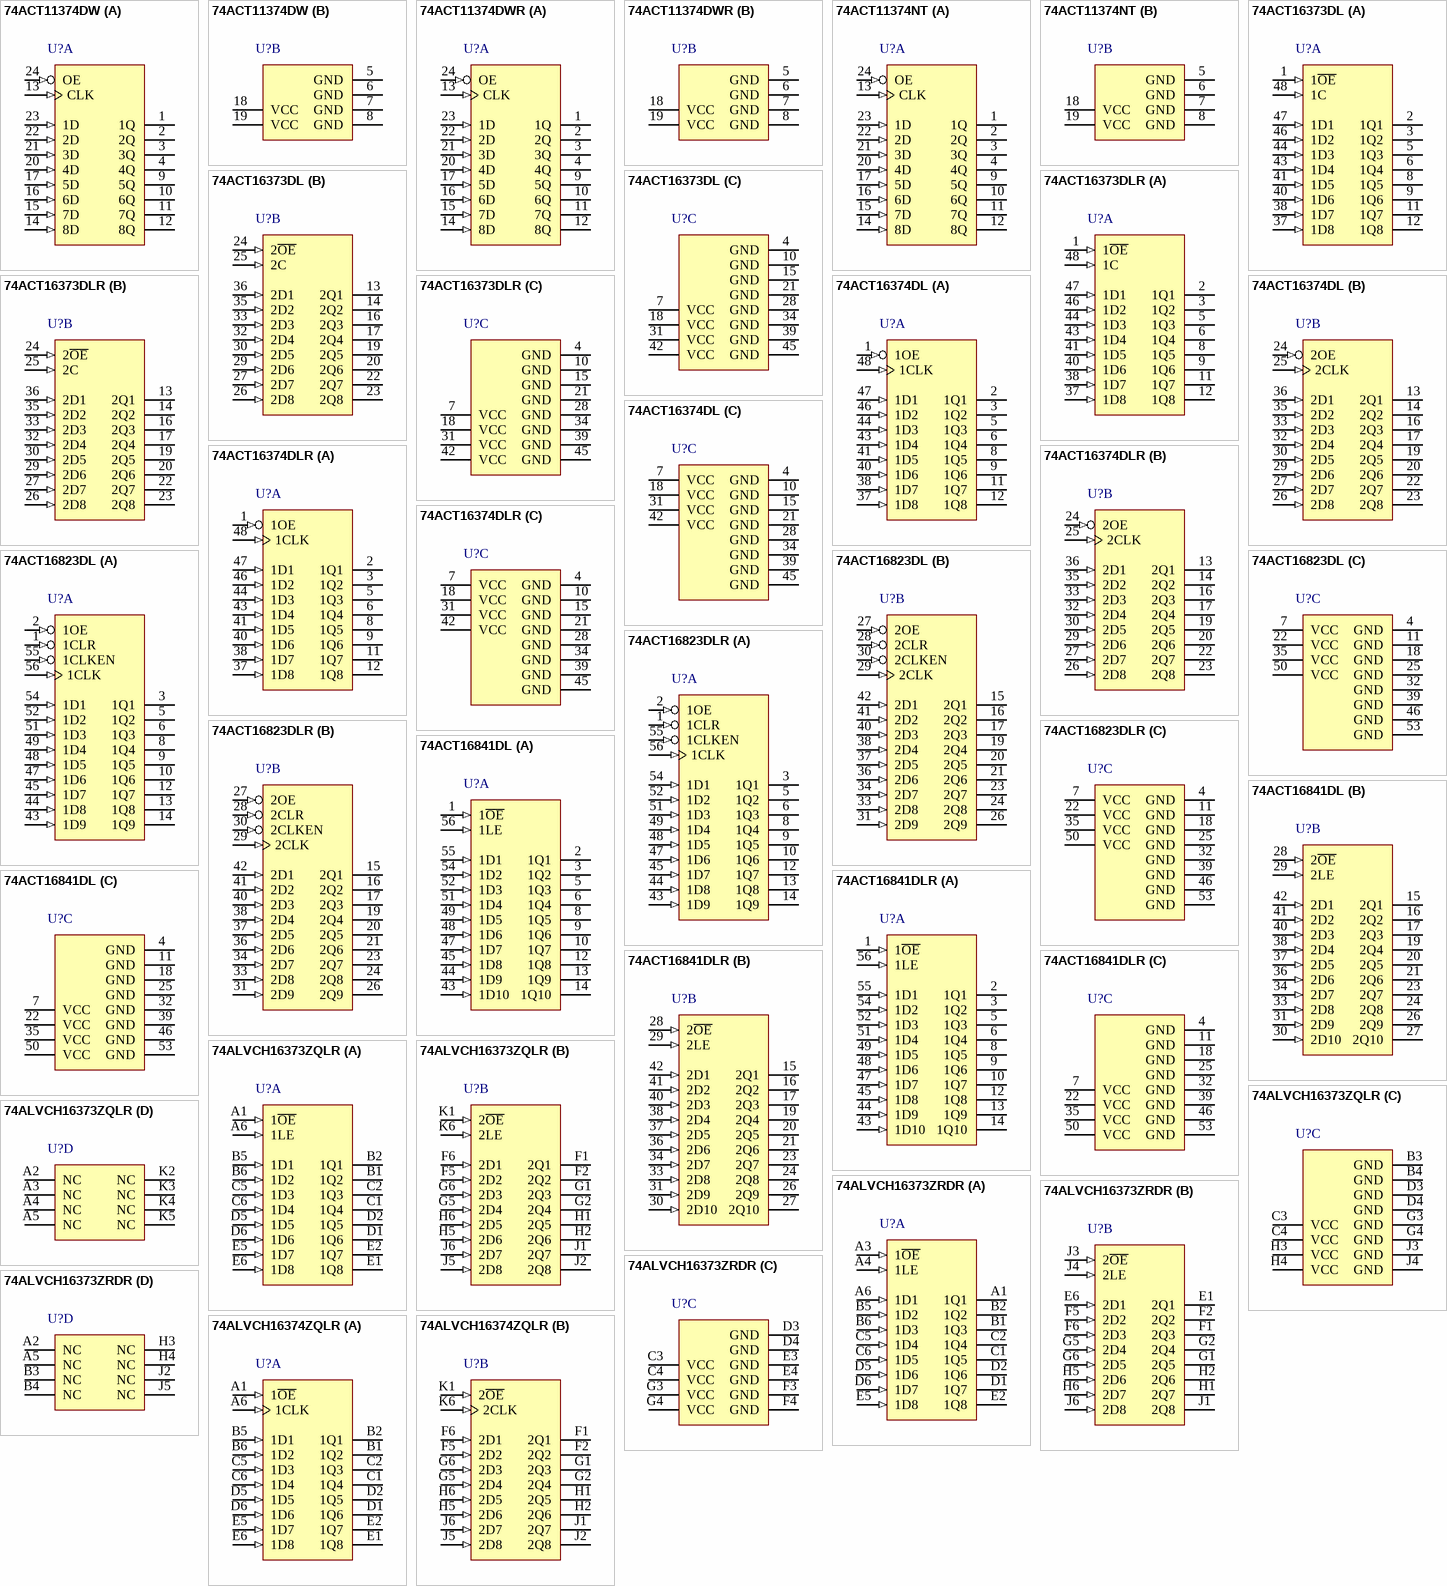
[diagram p1: symbols 74ACT11374DW to 74ALVCH16374ZQLR]

## 74ACT11374DW
designator U?
Octal Edge-Triggered D-Type Flip-Flops with 3-State Outputs, DW0024A, TUBE; Generic Part Number: 74ACT11374; Manufacturer: Texas Instruments; PartNumber: 74ACT11374DW; VCC(Min)(V): 4.5; VCC(Max)(V): 5.5; Output Type: CMOS; ICC @ Nom Voltage(Max)(mA): 0.08; Input Type: TTL; Bits(#): 8; F @ Nom Voltage(Max)(Mhz): 90; Rating: Catalog; Technology Family: ACT; Voltage(Nom)(V): 5; Schmitt Trigger: No; Output Drive (IOL/IOH)(Max)(mA): 24/-24; Output Logic: Non-inverted; 3-State Output: Yes; tpd @ Nom Voltage(Max)(ns): 13; DatasheetVersion: SCAS217A; PackageReference: DW0024A; Supplier 1: Digi-Key; Supplier Part Number 1: 296-4199-5-ND; Supplier 2: Farnell; Supplier Part Number 2: 1749871; Supplier 3: Mouser; Supplier Part Number 3: 595-74ACT11374DW; Operating Temperature Range(C): -40 to 85; Code_JEDEC: MS-013; ComponentLink1Description: Manufacturer URL; ComponentLink1URL: http://www.ti.com/; ComponentLink2Description: Datasheet; ComponentLink2URL: http://www.ti.com/lit/ds/symlink/74act11374.pdf; ComponentLink3Description: Package Specification; ComponentLink3URL: http://www.ti.com/lit/ml/mpds174a/mpds174a.pdf
footprint DW0024A_N (SOIC, 24-Leads, Body 15.6x7.6mm, Pitch 1.27mm, IPC Medium Density)
footprint DW0024A_M (SOIC, 24-Leads, Body 15.6x7.6mm, Pitch 1.27mm, IPC Low Density)
footprint DW0024A_L (SOIC, 24-Leads, Body 15.6x7.6mm, Pitch 1.27mm, IPC High Density)
part A pins: 1 1Q (hiz), 2 2Q (hiz), 3 3Q (hiz), 4 4Q (hiz), 9 5Q (hiz), 10 6Q (hiz), 11 7Q (hiz), 12 8Q (hiz), 13 CLK (in), 14 8D (in), 15 7D (in), 16 6D (in), 17 5D (in), 20 4D (in), 21 3D (in), 22 2D (in), 23 1D (in), 24 OE (in)
part B pins: 5 GND (power), 6 GND (power), 7 GND (power), 8 GND (power), 18 VCC (power), 19 VCC (power)

## 74ACT11374DWR
designator U?
Octal Edge-Triggered D-Type Flip-Flops with 3-State Outputs, DW0024A, LARGE T&R; Generic Part Number: 74ACT11374; Manufacturer: Texas Instruments; PartNumber: 74ACT11374DWR; VCC(Min)(V): 4.5; VCC(Max)(V): 5.5; Output Type: CMOS; ICC @ Nom Voltage(Max)(mA): 0.08; Input Type: TTL; Bits(#): 8; F @ Nom Voltage(Max)(Mhz): 90; Rating: Catalog; Technology Family: ACT; Voltage(Nom)(V): 5; Schmitt Trigger: No; Output Drive (IOL/IOH)(Max)(mA): 24/-24; Output Logic: Non-inverted; 3-State Output: Yes; tpd @ Nom Voltage(Max)(ns): 13; DatasheetVersion: SCAS217A; PackageReference: DW0024A; Supplier 1: Digi-Key; Supplier Part Number 1: 296-29547-2-ND; Supplier 2: Digi-Key; Supplier Part Number 2: 296-29547-1-ND; Supplier 3: Digi-Key; Supplier Part Number 3: 296-29547-6-ND; Supplier 4: Mouser; Supplier Part Number 4: 595-74ACT11374DWR; Operating Temperature Range(C): -40 to 85; Code_JEDEC: MS-013; ComponentLink1Description: Manufacturer URL; ComponentLink1URL: http://www.ti.com/; ComponentLink2Description: Datasheet; ComponentLink2URL: http://www.ti.com/lit/ds/symlink/74act11374.pdf; ComponentLink3Description: Package Specification; ComponentLink3URL: http://www.ti.com/lit/ml/mpds174a/mpds174a.pdf
footprint DW0024A_N (SOIC, 24-Leads, Body 15.6x7.6mm, Pitch 1.27mm, IPC Medium Density)
footprint DW0024A_M (SOIC, 24-Leads, Body 15.6x7.6mm, Pitch 1.27mm, IPC Low Density)
footprint DW0024A_L (SOIC, 24-Leads, Body 15.6x7.6mm, Pitch 1.27mm, IPC High Density)
part A pins: 1 1Q (hiz), 2 2Q (hiz), 3 3Q (hiz), 4 4Q (hiz), 9 5Q (hiz), 10 6Q (hiz), 11 7Q (hiz), 12 8Q (hiz), 13 CLK (in), 14 8D (in), 15 7D (in), 16 6D (in), 17 5D (in), 20 4D (in), 21 3D (in), 22 2D (in), 23 1D (in), 24 OE (in)
part B pins: 5 GND (power), 6 GND (power), 7 GND (power), 8 GND (power), 18 VCC (power), 19 VCC (power)

## 74ACT11374NT
designator U?
Octal Edge-Triggered D-Type Flip-Flops with 3-State Outputs, NT0024A, TUBE; Generic Part Number: 74ACT11374; Manufacturer: Texas Instruments; PartNumber: 74ACT11374NT; VCC(Min)(V): 4.5; VCC(Max)(V): 5.5; Output Type: CMOS; ICC @ Nom Voltage(Max)(mA): 0.08; Input Type: TTL; Bits(#): 8; F @ Nom Voltage(Max)(Mhz): 90; Rating: Catalog; Technology Family: ACT; Voltage(Nom)(V): 5; Schmitt Trigger: No; Output Drive (IOL/IOH)(Max)(mA): 24/-24; Output Logic: Non-inverted; 3-State Output: Yes; tpd @ Nom Voltage(Max)(ns): 13; DatasheetVersion: SCAS217A; PackageReference: NT0024A; Supplier 1: Digi-Key; Supplier Part Number 1: 296-32807-5-ND; Supplier 2: Mouser; Supplier Part Number 2: 595-74ACT11374NT; Operating Temperature Range(C): -40 to 85; ComponentLink1Description: Manufacturer URL; ComponentLink1URL: http://www.ti.com/; ComponentLink2Description: Datasheet; ComponentLink2URL: http://www.ti.com/lit/ds/symlink/74act11374.pdf; ComponentLink3Description: Package Specification; ComponentLink3URL: http://www.ti.com/lit/ml/mpdi004a/mpdi004a.pdf
footprint NT0024A (DIP, 24-Leads, Body 32.05x7.1mm, Pitch 2.54mm)
part A pins: 1 1Q (hiz), 2 2Q (hiz), 3 3Q (hiz), 4 4Q (hiz), 9 5Q (hiz), 10 6Q (hiz), 11 7Q (hiz), 12 8Q (hiz), 13 CLK (in), 14 8D (in), 15 7D (in), 16 6D (in), 17 5D (in), 20 4D (in), 21 3D (in), 22 2D (in), 23 1D (in), 24 OE (in)
part B pins: 5 GND (power), 6 GND (power), 7 GND (power), 8 GND (power), 18 VCC (power), 19 VCC (power)

## 74ACT16373DL
designator U?
16-Bit D-Type Transparent Latches With 3-State Outputs, DL0048A, TUBE; Generic Part Number: 74ACT16373; Manufacturer: Texas Instruments; PartNumber: 74ACT16373DL; VCC(Min)(V): 4.5; VCC(Max)(V): 5.5; Output Type: CMOS; Logic: True; Static Current: 0.08; Input Type: TTL; Bits(#): 16; F @ Nom Voltage(Max)(Mhz): 90; Rating: Catalog; Technology Family: ACT; Voltage(Nom)(V): 5; Schmitt Trigger: No; Output Drive (IOL/IOH)(Max)(mA): 24/-24; Output Logic: Non-inverted; 3-State Output: Yes; tpd @ Nom Voltage(Max)(ns): 12.3; DatasheetVersion: SCAS122C; PackageReference: DL0048A; Supplier 1: Digi-Key; Supplier Part Number 1: 296-1007-5-ND; Supplier 2: Newark; Supplier Part Number 2: 72K9989; Supplier 3: Mouser; Supplier Part Number 3: 595-74ACT16373DL; ICC @ Nom Voltage(Max)(mA): 0.08; Operating Temperature Range(C): -40 to 85; Code_JEDEC: MO-118; ComponentLink1Description: Manufacturer URL; ComponentLink1URL: http://www.ti.com/; ComponentLink2Description: Datasheet; ComponentLink2URL: http://www.ti.com/lit/ds/symlink/74act16373.pdf; ComponentLink3Description: Package Specification; ComponentLink3URL: http://www.ti.com/lit/ml/mpds490/mpds490.pdf
footprint DL0048A_N (SOP, 48-Leads, Body 7.6x16mm, Pitch 0.635mm, IPC Medium Density)
footprint DL0048A_M (SOP, 48-Leads, Body 7.6x16mm, Pitch 0.635mm, IPC Low Density)
footprint DL0048A_L (SOP, 48-Leads, Body 7.6x16mm, Pitch 0.635mm, IPC High Density)
part A pins: 1 1~{OE} (in), 2 1Q1 (hiz), 3 1Q2 (hiz), 5 1Q3 (hiz), 6 1Q4 (hiz), 8 1Q5 (hiz), 9 1Q6 (hiz), 11 1Q7 (hiz), 12 1Q8 (hiz), 37 1D8 (in), 38 1D7 (in), 40 1D6 (in), 41 1D5 (in), 43 1D4 (in), 44 1D3 (in), 46 1D2 (in), 47 1D1 (in), 48 1C (in)
part B pins: 13 2Q1 (hiz), 14 2Q2 (hiz), 16 2Q3 (hiz), 17 2Q4 (hiz), 19 2Q5 (hiz), 20 2Q6 (hiz), 22 2Q7 (hiz), 23 2Q8 (hiz), 24 2~{OE} (in), 25 2C (in), 26 2D8 (in), 27 2D7 (in), 29 2D6 (in), 30 2D5 (in), 32 2D4 (in), 33 2D3 (in), 35 2D2 (in), 36 2D1 (in)
part C pins: 4 GND (power), 7 VCC (power), 10 GND (power), 15 GND (power), 18 VCC (power), 21 GND (power), 28 GND (power), 31 VCC (power), 34 GND (power), 39 GND (power), 42 VCC (power), 45 GND (power)

## 74ACT16373DLR
designator U?
16-Bit D-Type Transparent Latches With 3-State Outputs, DL0048A, LARGE T&R; Generic Part Number: 74ACT16373; Manufacturer: Texas Instruments; PartNumber: 74ACT16373DLR; VCC(Min)(V): 4.5; VCC(Max)(V): 5.5; Output Type: CMOS; Logic: True; Static Current: 0.08; Input Type: TTL; Bits(#): 16; F @ Nom Voltage(Max)(Mhz): 90; Rating: Catalog; Technology Family: ACT; Voltage(Nom)(V): 5; Schmitt Trigger: No; Output Drive (IOL/IOH)(Max)(mA): 24/-24; Output Logic: Non-inverted; 3-State Output: Yes; tpd @ Nom Voltage(Max)(ns): 12.3; DatasheetVersion: SCAS122C; PackageReference: DL0048A; Supplier 1: Digi-Key; Supplier Part Number 1: 296-1007-2-ND; Supplier 2: Digi-Key; Supplier Part Number 2: 296-1007-1-ND; Supplier 3: Digi-Key; Supplier Part Number 3: 296-1007-6-ND; Supplier 4: Newark; Supplier Part Number 4: 20C4075; Supplier 5: Mouser; Supplier Part Number 5: 595-74ACT16373DLR; ICC @ Nom Voltage(Max)(mA): 0.08; Operating Temperature Range(C): -40 to 85; Code_JEDEC: MO-118; ComponentLink1Description: Manufacturer URL; ComponentLink1URL: http://www.ti.com/; ComponentLink2Description: Datasheet; ComponentLink2URL: http://www.ti.com/lit/ds/symlink/74act16373.pdf; ComponentLink3Description: Package Specification; ComponentLink3URL: http://www.ti.com/lit/ml/mpds490/mpds490.pdf
footprint DL0048A_N (SOP, 48-Leads, Body 7.6x16mm, Pitch 0.635mm, IPC Medium Density)
footprint DL0048A_M (SOP, 48-Leads, Body 7.6x16mm, Pitch 0.635mm, IPC Low Density)
footprint DL0048A_L (SOP, 48-Leads, Body 7.6x16mm, Pitch 0.635mm, IPC High Density)
part A pins: 1 1~{OE} (in), 2 1Q1 (hiz), 3 1Q2 (hiz), 5 1Q3 (hiz), 6 1Q4 (hiz), 8 1Q5 (hiz), 9 1Q6 (hiz), 11 1Q7 (hiz), 12 1Q8 (hiz), 37 1D8 (in), 38 1D7 (in), 40 1D6 (in), 41 1D5 (in), 43 1D4 (in), 44 1D3 (in), 46 1D2 (in), 47 1D1 (in), 48 1C (in)
part B pins: 13 2Q1 (hiz), 14 2Q2 (hiz), 16 2Q3 (hiz), 17 2Q4 (hiz), 19 2Q5 (hiz), 20 2Q6 (hiz), 22 2Q7 (hiz), 23 2Q8 (hiz), 24 2~{OE} (in), 25 2C (in), 26 2D8 (in), 27 2D7 (in), 29 2D6 (in), 30 2D5 (in), 32 2D4 (in), 33 2D3 (in), 35 2D2 (in), 36 2D1 (in)
part C pins: 4 GND (power), 7 VCC (power), 10 GND (power), 15 GND (power), 18 VCC (power), 21 GND (power), 28 GND (power), 31 VCC (power), 34 GND (power), 39 GND (power), 42 VCC (power), 45 GND (power)

## 74ACT16374DL
designator U?
16-Bit D-Type Edge-Triggered Flip-Flops With 3-State Outputs, DL0048A, TUBE; Generic Part Number: 74ACT16374; Manufacturer: Texas Instruments; PartNumber: 74ACT16374DL; VCC(Min)(V): 4.5; VCC(Max)(V): 5.5; Output Type: CMOS; ICC @ Nom Voltage(Max)(mA): 0.08; Input Type: TTL; Bits(#): 16; F @ Nom Voltage(Max)(Mhz): 90; Rating: Catalog; Technology Family: ACT; Voltage(Nom)(V): 5; Schmitt Trigger: No; Output Drive (IOL/IOH)(Max)(mA): 24/-24; Output Logic: Non-inverted; 3-State Output: Yes; tpd @ Nom Voltage(Max)(ns): 12.4; DatasheetVersion: SCAS124B; PackageReference: DL0048A; Supplier 1: Digi-Key; Supplier Part Number 1: 296-1008-5-ND; Supplier 2: Farnell; Supplier Part Number 2: 2407123; Supplier 3: Newark; Supplier Part Number 3: 83X8507; Supplier 4: Mouser; Supplier Part Number 4: 595-74ACT16374DL; Operating Temperature Range(C): -40 to 85; Code_JEDEC: MO-118; ComponentLink1Description: Manufacturer URL; ComponentLink1URL: http://www.ti.com/; ComponentLink2Description: Datasheet; ComponentLink2URL: http://www.ti.com/lit/ds/symlink/74act16374.pdf; ComponentLink3Description: Package Specification; ComponentLink3URL: http://www.ti.com/lit/ml/mpds490/mpds490.pdf
footprint DL0048A_N (SOP, 48-Leads, Body 7.6x16mm, Pitch 0.635mm, IPC Medium Density)
footprint DL0048A_M (SOP, 48-Leads, Body 7.6x16mm, Pitch 0.635mm, IPC Low Density)
footprint DL0048A_L (SOP, 48-Leads, Body 7.6x16mm, Pitch 0.635mm, IPC High Density)
part A pins: 1 1OE (in), 2 1Q1 (hiz), 3 1Q2 (hiz), 5 1Q3 (hiz), 6 1Q4 (hiz), 8 1Q5 (hiz), 9 1Q6 (hiz), 11 1Q7 (hiz), 12 1Q8 (hiz), 37 1D8 (in), 38 1D7 (in), 40 1D6 (in), 41 1D5 (in), 43 1D4 (in), 44 1D3 (in), 46 1D2 (in), 47 1D1 (in), 48 1CLK (in)
part B pins: 13 2Q1 (hiz), 14 2Q2 (hiz), 16 2Q3 (hiz), 17 2Q4 (hiz), 19 2Q5 (hiz), 20 2Q6 (hiz), 22 2Q7 (hiz), 23 2Q8 (hiz), 24 2OE (in), 25 2CLK (in), 26 2D8 (in), 27 2D7 (in), 29 2D6 (in), 30 2D5 (in), 32 2D4 (in), 33 2D3 (in), 35 2D2 (in), 36 2D1 (in)
part C pins: 4 GND (power), 7 VCC (power), 10 GND (power), 15 GND (power), 18 VCC (power), 21 GND (power), 28 GND (power), 31 VCC (power), 34 GND (power), 39 GND (power), 42 VCC (power), 45 GND (power)

## 74ACT16374DLR
designator U?
16-Bit D-Type Edge-Triggered Flip-Flops With 3-State Outputs, DL0048A, LARGE T&R; Generic Part Number: 74ACT16374; Manufacturer: Texas Instruments; PartNumber: 74ACT16374DLR; VCC(Min)(V): 4.5; VCC(Max)(V): 5.5; Output Type: CMOS; ICC @ Nom Voltage(Max)(mA): 0.08; Input Type: TTL; Bits(#): 16; F @ Nom Voltage(Max)(Mhz): 90; Rating: Catalog; Technology Family: ACT; Voltage(Nom)(V): 5; Schmitt Trigger: No; Output Drive (IOL/IOH)(Max)(mA): 24/-24; Output Logic: Non-inverted; 3-State Output: Yes; tpd @ Nom Voltage(Max)(ns): 12.4; DatasheetVersion: SCAS124B; PackageReference: DL0048A; Supplier 1: Digi-Key; Supplier Part Number 1: 296-1008-2-ND; Supplier 2: Digi-Key; Supplier Part Number 2: 296-1008-1-ND; Supplier 3: Digi-Key; Supplier Part Number 3: 296-1008-6-ND; Supplier 4: Newark; Supplier Part Number 4: 75C9212; Supplier 5: Mouser; Supplier Part Number 5: 595-74ACT16374DLR; Operating Temperature Range(C): -40 to 85; Code_JEDEC: MO-118; ComponentLink1Description: Manufacturer URL; ComponentLink1URL: http://www.ti.com/; ComponentLink2Description: Datasheet; ComponentLink2URL: http://www.ti.com/lit/ds/symlink/74act16374.pdf; ComponentLink3Description: Package Specification; ComponentLink3URL: http://www.ti.com/lit/ml/mpds490/mpds490.pdf
footprint DL0048A_N (SOP, 48-Leads, Body 7.6x16mm, Pitch 0.635mm, IPC Medium Density)
footprint DL0048A_M (SOP, 48-Leads, Body 7.6x16mm, Pitch 0.635mm, IPC Low Density)
footprint DL0048A_L (SOP, 48-Leads, Body 7.6x16mm, Pitch 0.635mm, IPC High Density)
part A pins: 1 1OE (in), 2 1Q1 (hiz), 3 1Q2 (hiz), 5 1Q3 (hiz), 6 1Q4 (hiz), 8 1Q5 (hiz), 9 1Q6 (hiz), 11 1Q7 (hiz), 12 1Q8 (hiz), 37 1D8 (in), 38 1D7 (in), 40 1D6 (in), 41 1D5 (in), 43 1D4 (in), 44 1D3 (in), 46 1D2 (in), 47 1D1 (in), 48 1CLK (in)
part B pins: 13 2Q1 (hiz), 14 2Q2 (hiz), 16 2Q3 (hiz), 17 2Q4 (hiz), 19 2Q5 (hiz), 20 2Q6 (hiz), 22 2Q7 (hiz), 23 2Q8 (hiz), 24 2OE (in), 25 2CLK (in), 26 2D8 (in), 27 2D7 (in), 29 2D6 (in), 30 2D5 (in), 32 2D4 (in), 33 2D3 (in), 35 2D2 (in), 36 2D1 (in)
part C pins: 4 GND (power), 7 VCC (power), 10 GND (power), 15 GND (power), 18 VCC (power), 21 GND (power), 28 GND (power), 31 VCC (power), 34 GND (power), 39 GND (power), 42 VCC (power), 45 GND (power)

## 74ACT16823DL
designator U?
18-Bit Bus-Interface Flip-Flops with 3-State Outputs, DL0056A, TUBE; Generic Part Number: 74ACT16823; Manufacturer: Texas Instruments; PartNumber: 74ACT16823DL; VCC(Min)(V): 4.5; VCC(Max)(V): 5.5; Output Type: CMOS; ICC @ Nom Voltage(Max)(mA): 0.08; Input Type: TTL; Bits(#): 18; F @ Nom Voltage(Max)(Mhz): 90; Rating: Catalog; Technology Family: ACT; Voltage(Nom)(V): 5; Schmitt Trigger: No; Output Drive (IOL/IOH)(Max)(mA): 24/-24; Output Logic: Non-inverted; 3-State Output: Yes; tpd @ Nom Voltage(Max)(ns): 12.9; DatasheetVersion: SCAS160A; PackageReference: DL0056A; Supplier 1: Digi-Key; Supplier Part Number 1: 296-4208-5-ND; Supplier 2: Mouser; Supplier Part Number 2: 595-74ACT16823DL; Operating Temperature Range(C): -40 to 85; Code_JEDEC: MO-118; ComponentLink1Description: Manufacturer URL; ComponentLink1URL: http://www.ti.com/; ComponentLink2Description: Datasheet; ComponentLink2URL: http://www.ti.com/lit/ds/symlink/74act16823.pdf; ComponentLink3Description: Package Specification; ComponentLink3URL: http://www.ti.com/lit/ml/mpds491/mpds491.pdf
footprint DL0056A_N (SOP, 56-Leads, Body 7.6x18.5mm, Pitch 0.635mm, IPC Medium Density)
footprint DL0056A_M (SOP, 56-Leads, Body 7.6x18.5mm, Pitch 0.635mm, IPC Low Density)
footprint DL0056A_L (SOP, 56-Leads, Body 7.6x18.5mm, Pitch 0.635mm, IPC High Density)
part A pins: 1 1CLR (in) "Asynchronous Clear Inputs (Active LOW)", 2 1OE (in) "Output Enable Inputs (Active LOW)", 3 1Q1 (hiz) "Three-State Outputs", 5 1Q2 (hiz) "Three-State Outputs", 6 1Q3 (hiz) "Three-State Outputs", 8 1Q4 (hiz) "Three-State Outputs", 9 1Q5 (hiz) "Three-State Outputs", 10 1Q6 (hiz) "Three-State Outputs", 12 1Q7 (hiz) "Three-State Outputs", 13 1Q8 (hiz) "Three-State Outputs", 14 1Q9 (hiz) "Three-State Outputs", 43 1D9 (in) "Data Inputs", 44 1D8 (in) "Data Inputs", 45 1D7 (in) "Data Inputs", 47 1D6 (in) "Data Inputs", 48 1D5 (in) "Data Inputs", 49 1D4 (in) "Data Inputs", 51 1D3 (in) "Data Inputs", 52 1D2 (in) "Data Inputs", 54 1D1 (in) "Data Inputs", 55 1CLKEN (in) "Clock Enable Inputs (Active LOW)", 56 1CLK (in) "Clock Inputs"
part B pins: 15 2Q1 (hiz) "Three-State Outputs", 16 2Q2 (hiz) "Three-State Outputs", 17 2Q3 (hiz) "Three-State Outputs", 19 2Q4 (hiz) "Three-State Outputs", 20 2Q5 (hiz) "Three-State Outputs", 21 2Q6 (hiz) "Three-State Outputs", 23 2Q7 (hiz) "Three-State Outputs", 24 2Q8 (hiz) "Three-State Outputs", 26 2Q9 (hiz) "Three-State Outputs", 27 2OE (in) "Output Enable Inputs (Active LOW)", 28 2CLR (in) "Asynchronous Clear Inputs (Active LOW)", 29 2CLK (in) "Clock Inputs", 30 2CLKEN (in) "Clock Enable Inputs (Active LOW)", 31 2D9 (in) "Data Inputs", 33 2D8 (in) "Data Inputs", 34 2D7 (in) "Data Inputs", 36 2D6 (in) "Data Inputs", 37 2D5 (in) "Data Inputs", 38 2D4 (in) "Data Inputs", 40 2D3 (in) "Data Inputs", 41 2D2 (in) "Data Inputs", 42 2D1 (in) "Data Inputs"
part C pins: 4 GND (power), 7 VCC (power), 11 GND (power), 18 GND (power), 22 VCC (power), 25 GND (power), 32 GND (power), 35 VCC (power), 39 GND (power), 46 GND (power), 50 VCC (power), 53 GND (power)